# EAGLE library part TLV320AIC3263IYZFT (library TLV320AIC3263IYZFT)
Low Power Stereo Audio Codec W/miniDSP, Class-D Speaker, DirectPath Headphone, 4 digital mic support Source: Datasheet <https://www.ti.com/lit/gpn/TLV320AIC3263>
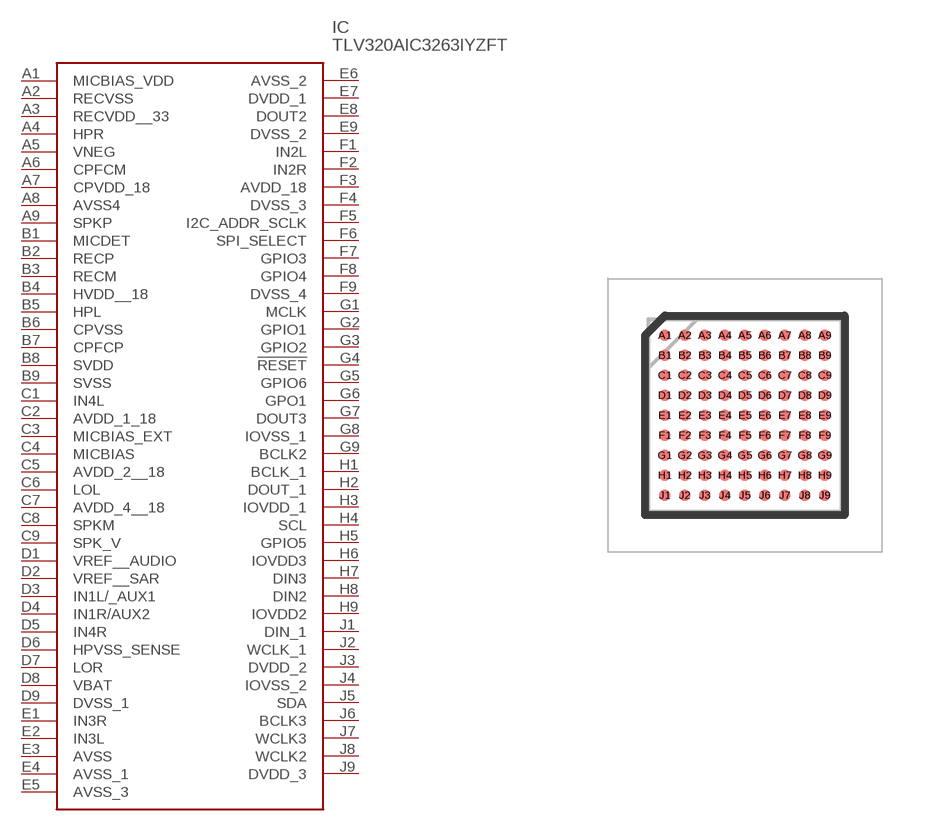
[diagram p0: symbol with the pads of BGA81C50P9X9_481X481X62; footprint BGA81C50P9X9_481X481X62]

Designator prefix IC

## TLV320AIC3263IYZFT (Description: Low Power Stereo Audio Codec W/miniDSP, Class-D Speaker, DirectPath Headphone, 4 digital mic support; Height: 0.625mm; Manufacturer_Name: Texas Instruments; Manufacturer_Part_Number: TLV320AIC3263IYZFT; Mouser_Part_Number: 595-V320AIC3263IYZFT; Mouser_Price-Stock: https://www.mouser.com/Search/Refine.aspx?Keyword=595-V320AIC3263IYZFT)  [BGA81C50P9X9_481X481X62]
A1  MICBIAS_VDD
A2  RECVSS
A3  RECVDD__33
A4  HPR
A5  VNEG
A6  CPFCM
A7  CPVDD_18
A8  AVSS4
A9  SPKP
B1  MICDET
B2  RECP
B3  RECM
B4  HVDD__18
B5  HPL
B6  CPVSS
B7  CPFCP
B8  SVDD
B9  SVSS
C1  IN4L
C2  AVDD_1_18
C3  MICBIAS_EXT
C4  MICBIAS
C5  AVDD_2__18
C6  LOL
C7  AVDD_4__18
C8  SPKM
C9  SPK_V
D1  VREF__AUDIO
D2  VREF__SAR
D3  IN1L/_AUX1
D4  IN1R/AUX2
D5  IN4R
D6  HPVSS_SENSE
D7  LOR
D8  VBAT
D9  DVSS_1
E1  IN3R
E2  IN3L
E3  AVSS
E4  AVSS_1
E5  AVSS_3
E6  AVSS_2
E7  DVDD_1
E8  DOUT2
E9  DVSS_2
F1  IN2L
F2  IN2R
F3  AVDD_18
F4  DVSS_3
F5  I2C_ADDR_SCLK
F6  SPI_SELECT
F7  GPIO3
F8  GPIO4
F9  DVSS_4
G1  MCLK
G2  GPIO1
G3  GPIO2
G4  !RESET
G5  GPIO6
G6  GPO1
G7  DOUT3
G8  IOVSS_1
G9  BCLK2
H1  BCLK_1
H2  DOUT_1
H3  IOVDD_1
H4  SCL
H5  GPIO5
H6  IOVDD3
H7  DIN3
H8  DIN2
H9  IOVDD2
J1  DIN_1
J2  WCLK_1
J3  DVDD_2
J4  IOVSS_2
J5  SDA
J6  BCLK3
J7  WCLK3
J8  WCLK2
J9  DVDD_3

## Footprint BGA81C50P9X9_481X481X62 (pad centres in mm)
YZF(R-XBGA-N81)
smd 0.29 x 0.29: A1 -2,2; A2 -1.5,2; A3 -1,2; A4 -0.5,2; A5 0,2; A6 0.5,2; A7 1,2; A8 1.5,2; A9 2,2; B1 -2,1.5; B2 -1.5,1.5; B3 -1,1.5; B4 -0.5,1.5; B5 0,1.5; B6 0.5,1.5; B7 1,1.5; B8 1.5,1.5; B9 2,1.5; C1 -2,1; C2 -1.5,1; C3 -1,1; C4 -0.5,1; C5 0,1; C6 0.5,1; C7 1,1; C8 1.5,1; C9 2,1; D1 -2,0.5; D2 -1.5,0.5; D3 -1,0.5; D4 -0.5,0.5; D5 0,0.5; D6 0.5,0.5; D7 1,0.5; D8 1.5,0.5; D9 2,0.5; E1 -2,0; E2 -1.5,0; E3 -1,0; E4 -0.5,0; E5 0,0; E6 0.5,0; E7 1,0; E8 1.5,0; E9 2,0; F1 -2,-0.5; F2 -1.5,-0.5; F3 -1,-0.5; F4 -0.5,-0.5; F5 0,-0.5; F6 0.5,-0.5; F7 1,-0.5; F8 1.5,-0.5; F9 2,-0.5; G1 -2,-1; G2 -1.5,-1; G3 -1,-1; G4 -0.5,-1; G5 0,-1; G6 0.5,-1; G7 1,-1; G8 1.5,-1; G9 2,-1; H1 -2,-1.5; H2 -1.5,-1.5; H3 -1,-1.5; H4 -0.5,-1.5; H5 0,-1.5; H6 0.5,-1.5; H7 1,-1.5; H8 1.5,-1.5; H9 2,-1.5; J1 -2,-2; J2 -1.5,-2; J3 -1,-2; J4 -0.5,-2; J5 0,-2; J6 0.5,-2; J7 1,-2; J8 1.5,-2; J9 2,-2